# Altium schematic symbol library 87224-1.SchLib: 2 symbols
Pins are listed as number, name and electrical type; pins without a type are passive.

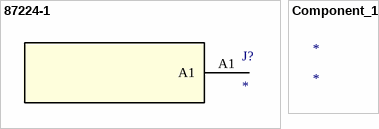
[diagram p0: symbols 87224-1 to Component_1]

## 87224-1
designator J?
No Description Available; Mfr_Name: TE Connectivity; RefDes: RefDes; Type: Type
footprint 87224-1_TYC
pins: A1

## Component_1
designator *